# Altium footprint library TCP-232-V5网络模块尺寸封装(AD10).PcbLib: 1 footprints
Each footprint in its own frame and in the unit in brackets; x right, y up, seen from the top. Pads: shape width x height; smd on the part's side, far side on the other; paste and mask are expansions set on the pad; w line width, h text height; cw(c..) or ccw(c..) is an arc to the next point about the centre after c.
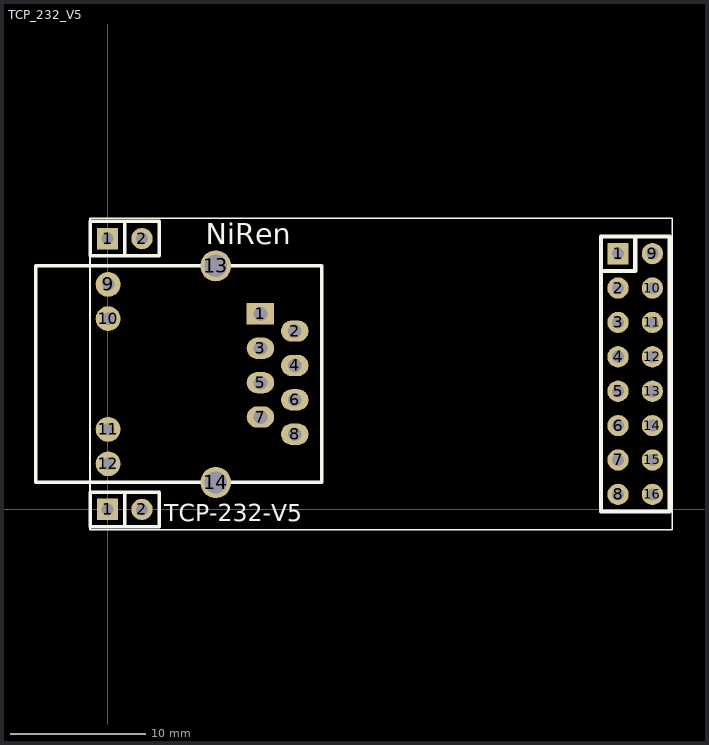
[diagram p0: the footprint, top view; thin cyan lines are the x and y axes]

## TCP_232_V5 [mil]
pads (34):
  rect 62x62 hole 35.43: 1(0,0) 1(0,787.4) 1(1484.25,743.7)
  rect 80x62 hole 40: 1(444.49,568.5)
  round 62 hole 35.43: 2(100,0) 2(100,787.4) 2(1484.25,643.7) 3(1484.25,543.7) 4(1484.25,443.7) 5(1484.25,343.7) 6(1484.25,243.7) 7(1484.25,143.7) 8(1484.25,43.7) 9(1584.25,743.7) 10(1584.25,643.7) 11(1584.25,543.7) 12(1584.25,443.7) 13(1584.25,343.7) 14(1584.25,243.7) 15(1584.25,143.7) 16(1584.25,43.7)
  oval 80x62 hole 40: 2(544.49,518.5) 3(444.49,468.5) 4(544.49,418.5) 5(444.49,368.5) 6(544.49,318.5) 7(444.49,268.5) 8(544.49,218.5)
  round 72 hole 36: 9(1.58,654.13) 10(1.58,554.5) 11(1.58,232.64) 12(1.58,132.5)
  round 90 hole 65: 13(314.57,708.27) 14(314.57,78.35)
Top Overlay:
  lines w5: -51.18,-59.06 1641.73,-59.06 1641.73,846.46 -51.18,846.46 -51.18,-59.06
  lines w10: -208.66,78.35 314.57,78.35 623.07,78.35 ; -208.66,78.5 -208.66,708.5 ; -208.66,708.27 314.57,708.27 622.99,708.27 ; 50,-50 50,50 ; 50,737.4 50,837.4 ; 623.23,78.5 623.07,78.35 ; 623.23,708.5 622.99,708.27 ; 622.99,708.27 623.07,708.19 623.07,78.35 ; -50,-50 150,-50 150,50 -50,50 -50,-50 ; -50,737.4 150,737.4 150,837.4 -50,837.4 -50,737.4
  lines w12: 1434.25,693.7 1534.25,693.7 1534.25,793.7 ; 1434.25,-6.3 1434.25,793.7 1634.25,793.7 1634.25,-6.3 1434.25,-6.3
  text "TCP-232-V5" at 164.82,-34.67 h50
  text "NiRen" at 285.52,771.37 h60
Multi-Layer:
  circle w5: c184.49,618.5 r70.8
  circle w5: c184.49,168.5 r70.8